# Altium footprint library SMD-IC  0607.PcbLib: 125 footprints (part 2 of 8)
Each footprint in its own frame and in the unit in brackets; x right, y up, seen from the top. Pads: shape width x height; smd on the part's side, far side on the other; paste and mask are expansions set on the pad; w line width, h text height; cw(c..) or ccw(c..) is an arc to the next point about the centre after c.
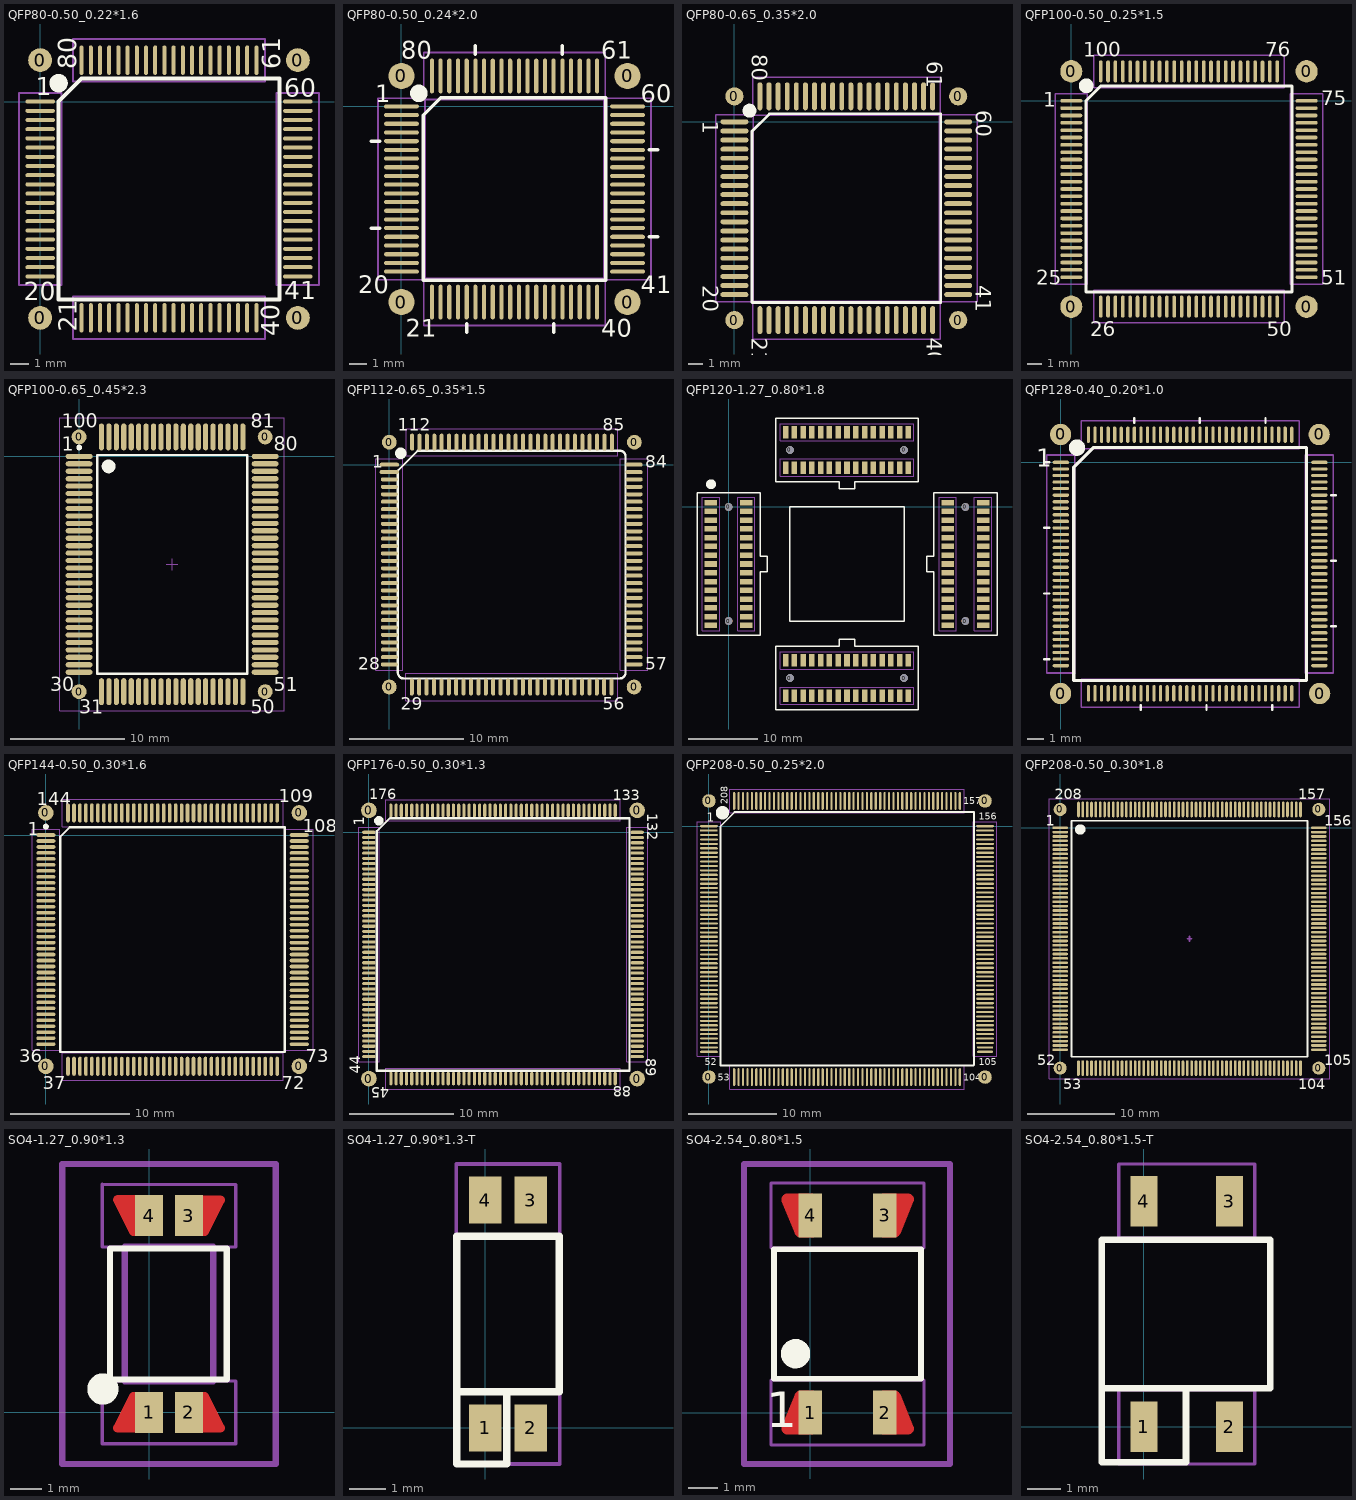
[diagram p1: the footprints below, top view; thin cyan lines are the x and y axes]

## QFP80-0.50_0.22*1.6 [mm]
pads (84):
  round 1.3 smd: 0(0,-11.75) 0(0,2.25) 0(14,-11.75) 0(14,2.25)
  oval 1.6x0.22 smd: 1(0,0) 2(0,-0.5) 3(0,-1) 4(0,-1.5) 5(0,-2) 6(0,-2.5) 7(0,-3) 8(0,-3.5) 9(0,-4) 10(0,-4.5) 11(0,-5) 12(0,-5.5) 13(0,-6) 14(0,-6.5) 15(0,-7) 16(0,-7.5) 17(0,-8) 18(0,-8.5) 19(0,-9) 20(0,-9.5) 41(14,-9.5) 42(14,-9) 43(14,-8.5) 44(14,-8) 45(14,-7.5) 46(14,-7) 47(14,-6.5) 48(14,-6) 49(14,-5.5) 50(14,-5) 51(14,-4.5) 52(14,-4) 53(14,-3.5) 54(14,-3) 55(14,-2.5) 56(14,-2) 57(14,-1.5) 58(14,-1) 59(14,-0.5) 60(14,0)
  oval 0.22x1.6 smd: 21(2.25,-11.75) 22(2.75,-11.75) 23(3.25,-11.75) 24(3.75,-11.75) 25(4.25,-11.75) 26(4.75,-11.75) 27(5.25,-11.75) 28(5.75,-11.75) 29(6.25,-11.75) 30(6.75,-11.75) 31(7.25,-11.75) 32(7.75,-11.75) 33(8.25,-11.75) 34(8.75,-11.75) 35(9.25,-11.75) 36(9.75,-11.75) 37(10.25,-11.75) 38(10.75,-11.75) 39(11.25,-11.75) 40(11.75,-11.75) 61(11.75,2.25) 62(11.25,2.25) 63(10.75,2.25) 64(10.25,2.25) 65(9.75,2.25) 66(9.25,2.25) 67(8.75,2.25) 68(8.25,2.25) 69(7.75,2.25) 70(7.25,2.25) 71(6.75,2.25) 72(6.25,2.25) 73(5.75,2.25) 74(5.25,2.25) 75(4.75,2.25) 76(4.25,2.25) 77(3.75,2.25) 78(3.25,2.25) 79(2.75,2.25) 80(2.25,2.25)
Top Overlay:
  circle w0.5: c1,1 r0.25
  lines w0.2: 1,-10.75 1,0 2.25,1.25 13,1.25 13,-10.75 1,-10.75
  text "80" at 1.95,1.75 h1
  text "61" at 13.05,1.75 h1
  text "60" at 13.25,0.25 h1
  text "41" at 13.25,-10.75 h1
  text "20" at -0.9,-10.8 h1
  text "1" at -0.25,0.35 h1
  text "21" at 2,-12.5 h1
  text "40" at 13,-12.75 h1
Mechanical 15:
  lines w0.1: -1.15,-9.96 -1.15,0.46 1.15,0.46 1.15,-9.96 -1.15,-9.96 ; 1.79,-12.9 12.21,-12.9 12.21,-10.6 1.79,-10.6 1.79,-12.9 ; 1.79,1.1 12.21,1.1 12.21,3.4 1.79,3.4 1.79,1.1 ; 12.85,-9.96 12.85,0.46 15.15,0.46 15.15,-9.96 12.85,-9.96

## QFP80-0.50_0.24*2.0 [mm]
height 1.2
pads (84):
  round 1.5 smd: 0(0,-11.25) 0(0,1.75) 0(13,-11.25) 0(13,1.75)
  oval 2x0.24 smd: 1(0,0) 2(0,-0.5) 3(0,-1) 4(0,-1.5) 5(0,-2) 6(0,-2.5) 7(0,-3) 8(0,-3.5) 9(0,-4) 10(0,-4.5) 11(0,-5) 12(0,-5.5) 13(0,-6) 14(0,-6.5) 15(0,-7) 16(0,-7.5) 17(0,-8) 18(0,-8.5) 19(0,-9) 20(0,-9.5) 41(13,-9.5) 42(13,-9) 43(13,-8.5) 44(13,-8) 45(13,-7.5) 46(13,-7) 47(13,-6.5) 48(13,-6) 49(13,-5.5) 50(13,-5) 51(13,-4.5) 52(13,-4) 53(13,-3.5) 54(13,-3) 55(13,-2.5) 56(13,-2) 57(13,-1.5) 58(13,-1) 59(13,-0.5) 60(13,0)
  oval 0.24x2 smd: 21(1.75,-11.25) 22(2.25,-11.25) 23(2.75,-11.25) 24(3.25,-11.25) 25(3.75,-11.25) 26(4.25,-11.25) 27(4.75,-11.25) 28(5.25,-11.25) 29(5.75,-11.25) 30(6.25,-11.25) 31(6.75,-11.25) 32(7.25,-11.25) 33(7.75,-11.25) 34(8.25,-11.25) 35(8.75,-11.25) 36(9.25,-11.25) 37(9.75,-11.25) 38(10.25,-11.25) 39(10.75,-11.25) 40(11.25,-11.25) 61(11.25,1.75) 62(10.75,1.75) 63(10.25,1.75) 64(9.75,1.75) 65(9.25,1.75) 66(8.75,1.75) 67(8.25,1.75) 68(7.75,1.75) 69(7.25,1.75) 70(6.75,1.75) 71(6.25,1.75) 72(5.75,1.75) 73(5.25,1.75) 74(4.75,1.75) 75(4.25,1.75) 76(3.75,1.75) 77(3.25,1.75) 78(2.75,1.75) 79(2.25,1.75) 80(1.75,1.75)
Top Overlay:
  circle w0.8: c1,0.75 r0.1
  lines w0.2: -1.75,-7 -1.25,-7 ; -1.75,-2 -1.25,-2 ; 3.75,-13 3.75,-12.5 ; 4.25,3 4.25,3.5 ; 8.75,-13 8.75,-12.5 ; 9.25,3 9.25,3.5 ; 14.25,-7.5 14.75,-7.5 ; 14.25,-2.5 14.75,-2.5 ; 1.25,-10 1.25,-0.5 2.25,0.5 11.75,0.5 11.75,-10 1.25,-10
  text "40" at 11.5,-13.25 h1
  text "41" at 13.75,-10.75 h1
  text "60" at 13.75,0.25 h1
  text "61" at 11.5,2.75 h1
  text "80" at 0,2.75 h1
  text "21" at 0.25,-13.25 h1
  text "20" at -2.5,-10.75 h1
  text "1" at -1.5,0.25 h1
Mechanical 15:
  lines w0.1: -1.35,-9.97 -1.35,0.47 1.35,0.47 1.35,-9.97 -1.35,-9.97 ; 1.28,-12.6 1.28,-9.9 11.72,-9.9 11.72,-12.6 1.28,-12.6 ; 1.28,0.4 11.72,0.4 11.72,3.1 1.28,3.1 1.28,0.4 ; 11.65,-9.97 11.65,0.47 14.35,0.47 14.35,-9.97 11.65,-9.97

## QFP80-0.65_0.35*2.0 [mm] "261007960Y"
height 2.45
pads (84):
  round 1.3 smd: 0(0,-14.175) 0(0,1.825) 0(16,-14.175) 0(16,1.825)
  oval 2x0.35 smd: 1(0,0) 2(0,-0.65) 3(0,-1.3) 4(0,-1.95) 5(0,-2.6) 6(0,-3.25) 7(0,-3.9) 8(0,-4.55) 9(0,-5.2) 10(0,-5.85) 11(0,-6.5) 12(0,-7.15) 13(0,-7.8) 14(0,-8.45) 15(0,-9.1) 16(0,-9.75) 17(0,-10.4) 18(0,-11.05) 19(0,-11.7) 20(0,-12.35) 41(16,-12.35) 42(16,-11.7) 43(16,-11.05) 44(16,-10.4) 45(16,-9.75) 46(16,-9.1) 47(16,-8.45) 48(16,-7.8) 49(16,-7.15) 50(16,-6.5) 51(16,-5.85) 52(16,-5.2) 53(16,-4.55) 54(16,-3.9) 55(16,-3.25) 56(16,-2.6) 57(16,-1.95) 58(16,-1.3) 59(16,-0.65) 60(16,0)
  oval 0.35x2 smd: 21(1.825,-14.175) 22(2.475,-14.175) 23(3.125,-14.175) 24(3.775,-14.175) 25(4.425,-14.175) 26(5.075,-14.175) 27(5.725,-14.175) 28(6.375,-14.175) 29(7.025,-14.175) 30(7.675,-14.175) 31(8.325,-14.175) 32(8.975,-14.175) 33(9.625,-14.175) 34(10.275,-14.175) 35(10.925,-14.175) 36(11.575,-14.175) 37(12.225,-14.175) 38(12.875,-14.175) 39(13.525,-14.175) 40(14.175,-14.175) 61(14.175,1.825) 62(13.525,1.825) 63(12.875,1.825) 64(12.225,1.825) 65(11.575,1.825) 66(10.925,1.825) 67(10.275,1.825) 68(9.625,1.825) 69(8.975,1.825) 70(8.325,1.825) 71(7.675,1.825) 72(7.025,1.825) 73(6.375,1.825) 74(5.725,1.825) 75(5.075,1.825) 76(4.425,1.825) 77(3.775,1.825) 78(3.125,1.825) 79(2.475,1.825) 80(1.825,1.825)
Top Overlay:
  circle w0.5: c1.075,0.8 r0.25
  lines w0.2: 1.25,-12.925 14.75,-12.925 14.75,0.575 2.5,0.575 1.25,-0.675 1.25,-12.925
  text "1" at -2.25,0.075 h1.1
  text "20" at -2.25,-11.675 h1.1
  text "21" at 1.25,-15.425 h1.1
  text "40" at 13.75,-15.425 h1.1
  text "41" at 17.25,-11.675 h1.1
  text "60" at 17.25,0.825 h1.1
  text "61" at 13.75,4.325 h1.1
  text "80" at 1.25,4.825 h1.1
Mechanical 15:
  lines w0.1: -1.35,-12.875 1.35,-12.875 1.35,0.525 -1.35,0.525 -1.35,-12.875 ; 1.3,-15.525 1.3,-12.825 14.7,-12.825 14.7,-15.525 1.3,-15.525 ; 1.3,0.475 14.7,0.475 14.7,3.175 1.3,3.175 1.3,0.475 ; 14.65,-12.875 17.35,-12.875 17.35,0.525 14.65,0.525 14.65,-12.875

## QFP100-0.50_0.25*1.5 [mm]
height 1.2
pads (104):
  oval 1.5x1.524 smd: 0(0,-14) 0(0,2) 0(16,-14) 0(16,2)
  oval 1.5x0.25 smd: 1(0,0) 2(0,-0.5) 3(0,-1) 4(0,-1.5) 5(0,-2) 6(0,-2.5) 7(0,-3) 8(0,-3.5) 9(0,-4) 10(0,-4.5) 11(0,-5) 12(0,-5.5) 13(0,-6) 14(0,-6.5) 15(0,-7) 16(0,-7.5) 17(0,-8) 18(0,-8.5) 19(0,-9) 20(0,-9.5) 21(0,-10) 22(0,-10.5) 23(0,-11) 24(0,-11.5) 25(0,-12) 51(16,-12) 52(16,-11.5) 53(16,-11) 54(16,-10.5) 55(16,-10) 56(16,-9.5) 57(16,-9) 58(16,-8.5) 59(16,-8) 60(16,-7.5) 61(16,-7) 62(16,-6.5) 63(16,-6) 64(16,-5.5) 65(16,-5) 66(16,-4.5) 67(16,-4) 68(16,-3.5) 69(16,-3) 70(16,-2.5) 71(16,-2) 72(16,-1.5) 73(16,-1) 74(16,-0.5) 75(16,0)
  oval 0.25x1.5 smd: 26(2,-14) 27(2.5,-14) 28(3,-14) 29(3.5,-14) 30(4,-14) 31(4.5,-14) 32(5,-14) 33(5.5,-14) 34(6,-14) 35(6.5,-14) 36(7,-14) 37(7.5,-14) 38(8,-14) 39(8.5,-14) 40(9,-14) 41(9.5,-14) 42(10,-14) 43(10.5,-14) 44(11,-14) 45(11.5,-14) 46(12,-14) 47(12.5,-14) 48(13,-14) 49(13.5,-14) 50(14,-14) 76(14,2) 77(13.5,2) 78(13,2) 79(12.5,2) 80(12,2) 81(11.5,2) 82(11,2) 83(10.5,2) 84(10,2) 85(9.5,2) 86(9,2) 87(8.5,2) 88(8,2) 89(7.5,2) 90(7,2) 91(6.5,2) 92(6,2) 93(5.5,2) 94(5,2) 95(4.5,2) 96(4,2) 97(3.5,2) 98(3,2) 99(2.5,2) 100(2,2)
Top Overlay:
  circle w0.5: c1.016,1.016 r0.25
  lines w0.2: 1,-13 1,0 2,1 15,1 15,-13 1,-13
  text "25" at -2.4,-12.5 h1
  text "100" at 0.8,3 h1
  text "1" at -1.9,-0.4 h1
  text "76" at 13.2,3 h1
  text "75" at 17,-0.3 h1
  text "51" at 17,-12.5 h1
  text "50" at 13.3,-16 h1
  text "26" at 1.3,-16 h1
Mechanical 15:
  lines w0.1: -1.1,-12.475 -1.1,0.475 1.1,0.475 1.1,-12.475 -1.1,-12.475 ; 1.525,-15.1 1.525,-12.9 14.475,-12.9 14.475,-15.1 1.525,-15.1 ; 1.525,0.9 1.525,3.1 14.475,3.1 14.475,0.9 1.525,0.9 ; 14.9,-12.475 17.1,-12.475 17.1,0.475 14.9,0.475 14.9,-12.475

## QFP100-0.65_0.45*2.3 [mm] "100-Pin Quad Flat Pack Rectangular 0.65 mm Pitch, IPC Low Density"
height 3.4
pads (104):
  round 1.3 smd: 0(0,-20.55) 0(0,1.7) 0(16.25,-20.55) 0(16.25,1.7)
  oval 2.35x0.45 smd: 1(0,0) 2(0,-0.65) 3(0,-1.3) 4(0,-1.95) 5(0,-2.6) 6(0,-3.25) 7(0,-3.9) 8(0,-4.55) 9(0,-5.2) 10(0,-5.85) 11(0,-6.5) 12(0,-7.15) 13(0,-7.8) 14(0,-8.45) 15(0,-9.1) 16(0,-9.75) 17(0,-10.4) 18(0,-11.05) 19(0,-11.7) 20(0,-12.35) 21(0,-13) 22(0,-13.65) 23(0,-14.3) 24(0,-14.95) 25(0,-15.6) 26(0,-16.25) 27(0,-16.9) 28(0,-17.55) 29(0,-18.2) 30(0,-18.85) 51(16.25,-18.85) 52(16.25,-18.2) 53(16.25,-17.55) 54(16.25,-16.9) 55(16.25,-16.25) 56(16.25,-15.6) 57(16.25,-14.95) 58(16.25,-14.3) 59(16.25,-13.65) 60(16.25,-13) 61(16.25,-12.35) 62(16.25,-11.7) 63(16.25,-11.05) 64(16.25,-10.4) 65(16.25,-9.75) 66(16.25,-9.1) 67(16.25,-8.45) 68(16.25,-7.8) 69(16.25,-7.15) 70(16.25,-6.5) 71(16.25,-5.85) 72(16.25,-5.2) 73(16.25,-4.55) 74(16.25,-3.9) 75(16.25,-3.25) 76(16.25,-2.6) 77(16.25,-1.95) 78(16.25,-1.3) 79(16.25,-0.65) 80(16.25,0)
  oval 0.45x2.35 smd: 31(1.95,-20.55) 32(2.6,-20.55) 33(3.25,-20.55) 34(3.9,-20.55) 35(4.55,-20.55) 36(5.2,-20.55) 37(5.85,-20.55) 38(6.5,-20.55) 39(7.15,-20.55) 40(7.8,-20.55) 41(8.45,-20.55) 42(9.1,-20.55) 43(9.75,-20.55) 44(10.4,-20.55) 45(11.05,-20.55) 46(11.7,-20.55) 47(12.35,-20.55) 48(13,-20.55) 49(13.65,-20.55) 50(14.3,-20.55) 81(14.3,1.7) 82(13.65,1.7) 83(13,1.7) 84(12.35,1.7) 85(11.7,1.7) 86(11.05,1.7) 87(10.4,1.7) 88(9.75,1.7) 89(9.1,1.7) 90(8.45,1.7) 91(7.8,1.7) 92(7.15,1.7) 93(6.5,1.7) 94(5.85,1.7) 95(5.2,1.7) 96(4.55,1.7) 97(3.9,1.7) 98(3.25,1.7) 99(2.6,1.7) 100(1.95,1.7)
Top Overlay:
  circle w0.25: c0,0.775 r0.125
  circle w0.6: c2.575,-0.875 r0.3
  lines w0.2: 1.575,-18.975 1.575,0.125 14.675,0.125 14.675,-18.975 1.575,-18.975
  text "30" at -2.5,-20.5 h1.2
  text "31" at 0,-22.5 h1.2
  text "100" at -1.5,2.5 h1.2
  text "1" at -1.5,0.5 h1.2
  text "80" at 17,0.5 h1.2
  text "81" at 15,2.5 h1.2
  text "51" at 17,-20.5 h1.2
  text "50" at 15,-22.5 h1.2
Mechanical 7:
  lines w0.1: 7.625,-9.425 8.625,-9.425 ; 8.125,-9.925 8.125,-8.925
Mechanical 15:
  lines w0.1: -1.675,-22.225 -1.675,3.375 17.925,3.375 17.925,-22.225 -1.675,-22.225

## QFP112-0.65_0.35*1.5 [mm]
height 1.6
pads (116):
  round 1.3 smd: 0(0,-19.525) 0(0,1.975) 0(21.5,-19.525) 0(21.525,1.975)
  oval 1.7x0.35 smd: 1(0,0) 2(0,-0.65)
  oval 1.5x0.35 smd: 3(0,-1.3) 4(0,-1.95) 5(0,-2.6) 6(0,-3.25) 7(0,-3.9) 8(0,-4.55) 9(0,-5.2) 10(0,-5.85) 11(0,-6.5) 12(0,-7.15) 13(0,-7.8) 14(0,-8.45) 15(0,-9.1) 16(0,-9.75) 17(0,-10.4) 18(0,-11.05) 19(0,-11.7) 20(0,-12.35) 21(0,-13) 22(0,-13.65) 23(0,-14.3) 24(0,-14.95) 25(0,-15.6) 26(0,-16.25) 27(0,-16.9) 28(0,-17.55) 57(21.5,-17.55) 58(21.5,-16.9) 59(21.5,-16.25) 60(21.5,-15.6) 61(21.5,-14.95) 62(21.5,-14.3) 63(21.5,-13.65) 64(21.5,-13) 65(21.5,-12.35) 66(21.5,-11.7) 67(21.5,-11.05) 68(21.5,-10.4) 69(21.5,-9.75) 70(21.5,-9.1) 71(21.5,-8.45) 72(21.5,-7.8) 73(21.5,-7.15) 74(21.5,-6.5) 75(21.5,-5.85) 76(21.5,-5.2) 77(21.5,-4.55) 78(21.5,-3.9) 79(21.5,-3.25) 80(21.5,-2.6) 81(21.5,-1.95) 82(21.5,-1.3) 83(21.5,-0.65) 84(21.5,0)
  oval 0.35x1.5 smd: 29(1.975,-19.525) 30(2.625,-19.525) 31(3.275,-19.525) 32(3.925,-19.525) 33(4.575,-19.525) 34(5.225,-19.525) 35(5.875,-19.525) 36(6.525,-19.525) 37(7.175,-19.525) 38(7.825,-19.525) 39(8.475,-19.525) 40(9.125,-19.525) 41(9.775,-19.525) 42(10.425,-19.525) 43(11.075,-19.525) 44(11.725,-19.525) 45(12.375,-19.525) 46(13.025,-19.525) 47(13.675,-19.525) 48(14.325,-19.525) 49(14.975,-19.525) 50(15.625,-19.525) 51(16.275,-19.525) 52(16.925,-19.525) 53(17.575,-19.525) 54(18.225,-19.525) 55(18.875,-19.525) 56(19.525,-19.525) 85(19.55,1.975) 86(18.9,1.975) 87(18.25,1.975) 88(17.6,1.975) 89(16.95,1.975) 90(16.3,1.975) 91(15.65,1.975) 92(15,1.975) 93(14.35,1.975) 94(13.7,1.975) 95(13.05,1.975) 96(12.4,1.975) 97(11.75,1.975) 98(11.1,1.975) 99(10.45,1.975) 100(9.8,1.975) 101(9.15,1.975) 102(8.5,1.975) 103(7.85,1.975) 104(7.2,1.975) 105(6.55,1.975) 106(5.9,1.975) 107(5.25,1.975) 108(4.6,1.975) 109(3.95,1.975) 110(3.3,1.975) 111(2.65,1.975) 112(2,1.975)
Top Overlay:
  circle w0.5: c1,1 r0.25
  lines w0.2: 0.75,0.725 cw(c1.25,0.725) 1.25,1.225 ; 0.75,-18.275 ccw(c1.25,-18.275) 1.25,-18.775 20.25,-18.775 ccw(c20.25,-18.275) 20.75,-18.275 20.75,0.725 ccw(c20.25,0.725) 20.25,1.225 2.5,1.225 0.75,-0.525 0.75,-18.275
  text "84" at 22.5,-0.275 h1.1
  text "57" at 22.5,-18.025 h1.1
  text "56" at 18.75,-21.525 h1.1
  text "29" at 1,-21.525 h1.1
  text "28" at -2.75,-18.025 h1.1
  text "1" at -1.5,-0.275 h1.1
  text "85" at 18.75,2.975 h1.1
  text "112" at 0.75,2.975 h1.1
Mechanical 15:
  lines w0.1: -1.2,-18.075 1.2,-18.075 1.2,0.525 -1.2,0.525 -1.2,-18.075 ; 1.45,-20.725 1.45,-18.325 20.05,-18.325 20.05,-20.725 1.45,-20.725 ; 1.475,0.775 1.475,3.175 20.075,3.175 20.075,0.775 1.475,0.775 ; 20.3,-18.075 22.7,-18.075 22.7,0.525 20.3,0.525 20.3,-18.075

## QFP120-1.27_0.80*1.8 [mm]
pads (128):
  round 1.1 hole 1.1 unplated: 0(0,-16.51) 0(0,0) 0(8.89,-24.765) 0(8.89,8.255) 0(25.4,-24.765) 0(25.4,8.255) 0(34.29,-16.51) 0(34.29,0)
  rect 1.8x0.8 smd: 1(2.55,-0.635) 2(-2.55,-1.905) 3(2.55,-1.905) 4(-2.55,-3.175) 5(2.55,-3.175) 6(-2.55,-4.445) 7(2.55,-4.445) 8(-2.55,-5.715) 9(2.55,-5.715) 10(-2.55,-6.985) 11(2.55,-6.985) 12(-2.55,-8.255) 13(2.55,-8.255) 14(-2.55,-9.525) 15(2.55,-9.525) 16(-2.55,-10.795) 17(2.55,-10.795) 18(-2.55,-12.065) 19(2.55,-12.065) 20(-2.55,-13.335) 21(2.55,-13.335) 22(-2.55,-14.605) 23(2.55,-14.605) 24(-2.55,-15.875) 25(2.55,-15.875) 51(31.74,-15.875) 52(36.84,-14.605) 53(31.74,-14.605) 54(36.84,-13.335) 55(31.74,-13.335) 56(36.84,-12.065) 57(31.74,-12.065) 58(36.84,-10.795) 59(31.74,-10.795) 60(36.84,-9.525) 61(31.74,-9.525) 62(36.84,-8.255) 63(31.74,-8.255) 64(36.84,-6.985) 65(31.74,-6.985) 66(36.84,-5.715) 67(31.74,-5.715) 68(36.84,-4.445) 69(31.74,-4.445) 70(36.84,-3.175) 71(31.74,-3.175) 72(36.84,-1.905) 73(31.74,-1.905) 74(36.84,-0.635) 75(31.74,-0.635) C(2.55,0.635) D(-2.55,0.635) E(-2.55,-0.635) F(2.55,-17.145) G(-2.55,-17.145) M(31.74,-17.145) N(36.84,-17.145) O(36.84,-15.875) P(36.84,0.635) Q(31.74,0.635)
  rect 0.8x1.8 smd: 26(9.525,-22.215) 27(10.795,-27.315) 28(10.795,-22.215) 29(12.065,-27.315) 30(12.065,-22.215) 31(13.335,-27.315) 32(13.335,-22.215) 33(14.605,-27.315) 34(14.605,-22.215) 35(15.875,-27.315) 36(15.875,-22.215) 37(17.145,-27.315) 38(17.145,-22.215) 39(18.415,-27.315) 40(18.415,-22.215) 41(19.685,-27.315) 42(19.685,-22.215) 43(20.955,-27.315) 44(20.955,-22.215) 45(22.225,-27.315) 46(22.225,-22.215) 47(23.495,-27.315) 48(23.495,-22.215) 49(24.765,-27.315) 50(24.765,-22.215) 76(24.765,5.705) 77(23.495,10.805) 78(23.495,5.705) 79(22.225,10.805) 80(22.225,5.705) 81(20.955,10.805) 82(20.955,5.705) 83(19.685,10.805) 84(19.685,5.705) 85(18.415,10.805) 86(18.415,5.705) 87(17.145,10.805) 88(17.145,5.705) 89(15.875,10.805) 90(15.875,5.705) 91(14.605,10.805) 92(14.605,5.705) 93(13.335,10.805) 94(13.335,5.705) 95(12.065,10.805) 96(12.065,5.705) 97(10.795,10.805) 98(10.795,5.705) 99(9.525,10.805) 100(9.525,5.705) A(8.255,5.705) B(8.255,10.805) H(8.255,-22.215) I(8.255,-27.315) J(9.525,-27.315) K(26.035,-22.215) L(26.035,-27.315) R(26.035,5.705) S(26.035,10.805) T(24.765,10.805)
Top Overlay:
  circle w1.27: c-2.54,3.302 r0.076
  lines w0.2: -4.572,-18.542 -4.572,2.032 4.572,2.032 4.572,-7.112 5.588,-7.112 5.588,-9.398 4.572,-9.398 4.572,-18.542 -4.572,-18.542 ; 6.858,-29.337 27.432,-29.337 27.432,-20.193 18.288,-20.193 18.288,-19.177 16.002,-19.177 16.002,-20.193 6.858,-20.193 6.858,-29.337 ; 6.858,3.683 16.002,3.683 16.002,2.667 18.288,2.667 18.288,3.683 27.432,3.683 27.432,12.827 6.858,12.827 6.858,3.683 ; 8.89,-16.51 8.89,0 25.4,0 25.4,-16.51 8.89,-16.51 ; 28.702,-9.398 28.702,-7.112 29.718,-7.112 29.718,2.032 38.862,2.032 38.862,-18.542 29.718,-18.542 29.718,-9.398 28.702,-9.398
Mechanical 15:
  lines w0.1: -3.8,-17.895 -1.3,-17.895 -1.3,1.385 -3.8,1.385 -3.8,-17.895 ; 1.3,-17.895 1.3,1.385 3.8,1.385 3.8,-17.895 1.3,-17.895 ; 7.505,-28.565 26.785,-28.565 26.785,-26.065 7.505,-26.065 7.505,-28.565 ; 7.505,-23.465 26.785,-23.465 26.785,-20.965 7.505,-20.965 7.505,-23.465 ; 7.505,4.455 26.785,4.455 26.785,6.955 7.505,6.955 7.505,4.455 ; 7.505,9.555 26.785,9.555 26.785,12.055 7.505,12.055 7.505,9.555 ; 30.49,-17.895 30.49,1.385 32.99,1.385 32.99,-17.895 30.49,-17.895 ; 35.59,-17.895 35.59,1.385 38.09,1.385 38.09,-17.895 35.59,-17.895
Drill Drawing:
  text "NPTH" at -2.55,-15.645 h1
  text "NPTH" at -2.55,-2.145 h1
  text "NPTH" at 6.5,-26.5 h1
  text "NPTH" at 23,-26.5 h1
  text "NPTH" at 32.25,-15.75 h1
  text "NPTH" at 32.25,-2.25 h1
  text "NPTH" at 23,6.5 h1
  text "NPTH" at 6.5,6.5 h1

## QFP128-0.40_0.20*1.0 [mm]
height 1.6
pads (132):
  round 1.3 smd: 0(-0.015,-14.1) 0(-0.015,1.7) 0(15.757,1.7) 0(15.785,-14.1)
  oval 1x0.2 smd: 1(0,0) 2(0,-0.4) 3(0,-0.8) 4(0,-1.2) 5(0,-1.6) 6(0,-2) 7(0,-2.4) 8(0,-2.8) 9(0,-3.2) 10(0,-3.6) 11(0,-4) 12(0,-4.4) 13(0,-4.8) 14(0,-5.2) 15(0,-5.6) 16(0,-6) 17(0,-6.4) 18(0,-6.8) 19(0,-7.2) 20(0,-7.6) 21(0,-8) 22(0,-8.4) 23(0,-8.8) 24(0,-9.2) 25(0,-9.6) 26(0,-10) 27(0,-10.4) 28(0,-10.8) 29(0,-11.2) 30(0,-11.6) 31(0,-12) 32(0,-12.4) 65(15.771,-12.4) 66(15.771,-12) 67(15.771,-11.6) 68(15.771,-11.2) 69(15.771,-10.8) 70(15.771,-10.4) 71(15.771,-10) 72(15.771,-9.6) 73(15.771,-9.2) 74(15.771,-8.8) 75(15.771,-8.4) 76(15.771,-8) 77(15.771,-7.6) 78(15.771,-7.2) 79(15.771,-6.8) 80(15.771,-6.4) 81(15.771,-6) 82(15.771,-5.6) 83(15.771,-5.2) 84(15.771,-4.8) 85(15.771,-4.4) 86(15.771,-4) 87(15.771,-3.6) 88(15.771,-3.2) 89(15.771,-2.8) 90(15.771,-2.4) 91(15.771,-2) 92(15.771,-1.6) 93(15.771,-1.2) 94(15.771,-0.8) 95(15.771,-0.4) 96(15.771,0)
  oval 0.2x1 smd: 33(1.686,-14.085) 34(2.086,-14.085) 35(2.486,-14.085) 36(2.886,-14.085) 37(3.286,-14.085) 38(3.686,-14.085) 39(4.086,-14.085) 40(4.486,-14.085) 41(4.886,-14.085) 42(5.286,-14.085) 43(5.686,-14.085) 44(6.086,-14.085) 45(6.486,-14.085) 46(6.886,-14.085) 47(7.286,-14.085) 48(7.686,-14.085) 49(8.086,-14.085) 50(8.486,-14.085) 51(8.886,-14.085) 52(9.286,-14.085) 53(9.686,-14.085) 54(10.086,-14.085) 55(10.486,-14.085) 56(10.886,-14.085) 57(11.285,-14.085) 58(11.685,-14.085) 59(12.085,-14.085) 60(12.485,-14.085) 61(12.885,-14.085) 62(13.285,-14.085) 63(13.685,-14.085) 64(14.085,-14.085) 97(14.085,1.686) 98(13.685,1.686) 99(13.285,1.686) 100(12.885,1.686) 101(12.485,1.686) 102(12.085,1.686) 103(11.685,1.686) 104(11.285,1.686) 105(10.886,1.686) 106(10.486,1.686) 107(10.086,1.686) 108(9.686,1.686) 109(9.286,1.686) 110(8.886,1.686) 111(8.486,1.686) 112(8.086,1.686) 113(7.686,1.686) 114(7.286,1.686) 115(6.886,1.686) 116(6.486,1.686) 117(6.086,1.686) 118(5.686,1.686) 119(5.286,1.686) 120(4.886,1.686) 121(4.486,1.686) 122(4.086,1.686) 123(3.686,1.686) 124(3.286,1.686) 125(2.886,1.686) 126(2.486,1.686) 127(2.086,1.686) 128(1.686,1.686)
Top Overlay:
  circle w0.5: c0.985,0.9 r0.25
  lines w0.15: -1.015,-12 -0.715,-12 ; -1.015,-8 -0.715,-8 ; -1.015,-4 -0.715,-4 ; -1.015,0 -0.715,0 ; 4.486,2.4 4.486,2.7 ; 4.886,-15.1 4.886,-14.8 ; 8.486,2.4 8.486,2.7 ; 8.886,-15.1 8.886,-14.8 ; 12.485,2.4 12.485,2.7 ; 12.885,-15.1 12.885,-14.8 ; 16.485,-10 16.785,-10 ; 16.485,-6 16.785,-6 ; 16.485,-2 16.785,-2
  lines w0.2: 0.785,-13.3 0.785,-0.3 1.985,0.9 14.985,0.9 14.985,-13.3 0.785,-13.3
  text "1" at -1.515,-0.275 h1.1
Mechanical 15:
  lines w0.1: -0.85,-12.85 -0.85,0.45 0.85,0.45 0.85,-12.85 -0.85,-12.85 ; 1.236,-14.935 1.236,-13.235 14.536,-13.235 14.536,-14.935 1.236,-14.935 ; 1.236,0.836 1.236,2.536 14.536,2.536 14.536,0.836 1.236,0.836 ; 14.921,-12.85 16.621,-12.85 16.621,0.45 14.921,0.45 14.921,-12.85

## QFP144-0.50_0.30*1.6 [mm]
height 1.6
pads (148):
  round 1.3 smd: 0(0,-19.35) 0(0,1.85) 0(21.2,-19.35) 0(21.2,1.85)
  oval 1.6x0.3 smd: 1(0,0) 2(0,-0.5) 3(0,-1) 4(0,-1.5) 5(0,-2) 6(0,-2.5) 7(0,-3) 8(0,-3.5) 9(0,-4) 10(0,-4.5) 11(0,-5) 12(0,-5.5) 13(0,-6) 14(0,-6.5) 15(0,-7) 16(0,-7.5) 17(0,-8) 18(0,-8.5) 19(0,-9) 20(0,-9.5) 21(0,-10) 22(0,-10.5) 23(0,-11) 24(0,-11.5) 25(0,-12) 26(0,-12.5) 27(0,-13) 28(0,-13.5) 29(0,-14) 30(0,-14.5) 31(0,-15) 32(0,-15.5) 33(0,-16) 34(0,-16.5) 35(0,-17) 36(0,-17.5) 73(21.2,-17.5) 74(21.2,-17) 75(21.2,-16.5) 76(21.2,-16) 77(21.2,-15.5) 78(21.2,-15) 79(21.2,-14.5) 80(21.2,-14) 81(21.2,-13.5) 82(21.2,-13) 83(21.2,-12.5) 84(21.2,-12) 85(21.2,-11.5) 86(21.2,-11) 87(21.2,-10.5) 88(21.2,-10) 89(21.2,-9.5) 90(21.2,-9) 91(21.2,-8.5) 92(21.2,-8) 93(21.2,-7.5) 94(21.2,-7) 95(21.2,-6.5) 96(21.2,-6) 97(21.2,-5.5) 98(21.2,-5) 99(21.2,-4.5) 100(21.2,-4) 101(21.2,-3.5) 102(21.2,-3) 103(21.2,-2.5) 104(21.2,-2) 105(21.2,-1.5) 106(21.2,-1) 107(21.2,-0.5) 108(21.2,0)
  oval 0.3x1.6 smd: 37(1.85,-19.35) 38(2.35,-19.35) 39(2.85,-19.35) 40(3.35,-19.35) 41(3.85,-19.35) 42(4.35,-19.35) 43(4.85,-19.35) 44(5.35,-19.35) 45(5.85,-19.35) 46(6.35,-19.35) 47(6.85,-19.35) 48(7.35,-19.35) 49(7.85,-19.35) 50(8.35,-19.35) 51(8.85,-19.35) 52(9.35,-19.35) 53(9.85,-19.35) 54(10.35,-19.35) 55(10.85,-19.35) 56(11.35,-19.35) 57(11.85,-19.35) 58(12.35,-19.35) 59(12.85,-19.35) 60(13.35,-19.35) 61(13.85,-19.35) 62(14.35,-19.35) 63(14.85,-19.35) 64(15.35,-19.35) 65(15.85,-19.35) 66(16.35,-19.35) 67(16.85,-19.35) 68(17.35,-19.35) 69(17.85,-19.35) 70(18.35,-19.35) 71(18.85,-19.35) 72(19.35,-19.35) 109(19.35,1.85) 110(18.85,1.85) 111(18.35,1.85) 112(17.85,1.85) 113(17.35,1.85) 114(16.85,1.85) 115(16.35,1.85) 116(15.85,1.85) 117(15.35,1.85) 118(14.85,1.85) 119(14.35,1.85) 120(13.85,1.85) 121(13.35,1.85) 122(12.85,1.85) 123(12.35,1.85) 124(11.85,1.85) 125(11.35,1.85) 126(10.85,1.85) 127(10.35,1.85) 128(9.85,1.85) 129(9.35,1.85) 130(8.85,1.85) 131(8.35,1.85) 132(7.85,1.85) 133(7.35,1.85) 134(6.85,1.85) 135(6.35,1.85) 136(5.85,1.85) 137(5.35,1.85) 138(4.85,1.85) 139(4.35,1.85) 140(3.85,1.85) 141(3.35,1.85) 142(2.85,1.85) 143(2.35,1.85) 144(1.85,1.85)
Top Overlay:
  circle w0.25: c0,0.7 r0.125
  lines w0.2: 1.2,-18.15 20,-18.15 20,0.65 2,0.65 1.2,-0.15 1.2,-18.15
  text "144" at -0.75,2.5 h1.1
  text "109" at 19.5,2.75 h1.1
  text "108" at 21.5,0.25 h1.1
  text "73" at 21.75,-19 h1.1
  text "72" at 19.75,-21.25 h1.1
  text "37" at -0.25,-21.25 h1.1
  text "36" at -2.25,-19 h1.1
  text "1" at -1.5,0 h1.1
Mechanical 15:
  lines w0.1: -1.15,-18 -1.15,0.5 1.15,0.5 1.15,-18 -1.15,-18 ; 1.35,-20.5 1.35,-18.2 19.85,-18.2 19.85,-20.5 1.35,-20.5 ; 1.35,0.7 1.35,3 19.85,3 19.85,0.7 1.35,0.7 ; 20.05,-18 22.35,-18 22.35,0.5 20.05,0.5 20.05,-18

## QFP176-0.50_0.30*1.3 [mm]
height 1.6
pads (180):
  round 1.5 smd: 0(0,-23.6) 0(0,2.1) 0(25.7,-23.6) 0(25.7,2.1)
  oval 1.3x0.3 smd: 1(0,0) 2(0,-0.5) 3(0,-1) 4(0,-1.5) 5(0,-2) 6(0,-2.5) 7(0,-3) 8(0,-3.5) 9(0,-4) 10(0,-4.5) 11(0,-5) 12(0,-5.5) 13(0,-6) 14(0,-6.5) 15(0,-7) 16(0,-7.5) 17(0,-8) 18(0,-8.5) 19(0,-9) 20(0,-9.5) 21(0,-10) 22(0,-10.5) 23(0,-11) 24(0,-11.5) 25(0,-12) 26(0,-12.5) 27(0,-13) 28(0,-13.5) 29(0,-14) 30(0,-14.5) 31(0,-15) 32(0,-15.5) 33(0,-16) 34(0,-16.5) 35(0,-17) 36(0,-17.5) 37(0,-18) 38(0,-18.5) 39(0,-19) 40(0,-19.5) 41(0,-20) 42(0,-20.5) 43(0,-21) 44(0,-21.5) 89(25.7,-21.5) 90(25.7,-21) 91(25.7,-20.5) 92(25.7,-20) 93(25.7,-19.5) 94(25.7,-19) 95(25.7,-18.5) 96(25.7,-18) 97(25.7,-17.5) 98(25.7,-17) 99(25.7,-16.5) 100(25.7,-16) 101(25.7,-15.5) 102(25.7,-15) 103(25.7,-14.5) 104(25.7,-14) 105(25.7,-13.5) 106(25.7,-13) 107(25.7,-12.5) 108(25.7,-12) 109(25.7,-11.5) 110(25.7,-11) 111(25.7,-10.5) 112(25.7,-10) 113(25.7,-9.5) 114(25.7,-9) 115(25.7,-8.5) 116(25.7,-8) 117(25.7,-7.5) 118(25.7,-7) 119(25.7,-6.5) 120(25.7,-6) 121(25.7,-5.5) 122(25.7,-5) 123(25.7,-4.5) 124(25.7,-4) 125(25.7,-3.5) 126(25.7,-3) 127(25.7,-2.5) 128(25.7,-2) 129(25.7,-1.5) 130(25.7,-1) 131(25.7,-0.5) 132(25.7,0)
  oval 0.3x1.3 smd: 45(2.1,-23.6) 46(2.6,-23.6) 47(3.1,-23.6) 48(3.6,-23.6) 49(4.1,-23.6) 50(4.6,-23.6) 51(5.1,-23.6) 52(5.6,-23.6) 53(6.1,-23.6) 54(6.6,-23.6) 55(7.1,-23.6) 56(7.6,-23.6) 57(8.1,-23.6) 58(8.6,-23.6) 59(9.1,-23.6) 60(9.6,-23.6) 61(10.1,-23.6) 62(10.6,-23.6) 63(11.1,-23.6) 64(11.6,-23.6) 65(12.1,-23.6) 66(12.6,-23.6) 67(13.1,-23.6) 68(13.6,-23.6) 69(14.1,-23.6) 70(14.6,-23.6) 71(15.1,-23.6) 72(15.6,-23.6) 73(16.1,-23.6) 74(16.6,-23.6) 75(17.1,-23.6) 76(17.6,-23.6) 77(18.1,-23.6) 78(18.6,-23.6) 79(19.1,-23.6) 80(19.6,-23.6) 81(20.1,-23.6) 82(20.6,-23.6) 83(21.1,-23.6) 84(21.6,-23.6) 85(22.1,-23.6) 86(22.6,-23.6) 87(23.1,-23.6) 88(23.6,-23.6) 133(23.6,2.1) 134(23.1,2.1) 135(22.6,2.1) 136(22.1,2.1) 137(21.6,2.1) 138(21.1,2.1) 139(20.6,2.1) 140(20.1,2.1) 141(19.6,2.1) 142(19.1,2.1) 143(18.6,2.1) 144(18.1,2.1) 145(17.6,2.1) 146(17.1,2.1) 147(16.6,2.1) 148(16.1,2.1) 149(15.6,2.1) 150(15.1,2.1) 151(14.6,2.1) 152(14.1,2.1) 153(13.6,2.1) 154(13.1,2.1) 155(12.6,2.1) 156(12.1,2.1) 157(11.6,2.1) 158(11.1,2.1) 159(10.6,2.1) 160(10.1,2.1) 161(9.6,2.1) 162(9.1,2.1) 163(8.6,2.1) 164(8.1,2.1) 165(7.6,2.1) 166(7.1,2.1) 167(6.6,2.1) 168(6.1,2.1) 169(5.6,2.1) 170(5.1,2.1) 171(4.6,2.1) 172(4.1,2.1) 173(3.6,2.1) 174(3.1,2.1) 175(2.6,2.1) 176(2.1,2.1)
Top Overlay:
  circle w0.5: c0.95,1.1 r0.2
  lines w0.2: 0.75,-22.85 24.95,-22.85 24.95,1.35 2,1.35 0.75,0.1 0.75,-22.85
  text "176" at 0.05,3.15 h1
  text "133" at 23.35,3.05 h1
  text "89" at 26.55,-21.65 h1
  text "88" at 25.15,-24.35 h1
  text "132" at 26.65,1.85 h1
  text "45" at 1.95,-24.45 h1
  text "44" at -0.85,-23.15 h1
  text "1" at -0.45,0.65 h1
Mechanical 15:
  lines w0.1: -1,-22 -1,0.5 1,0.5 1,-22 -1,-22 ; 1.6,-24.6 1.6,-22.6 24.1,-22.6 24.1,-24.6 1.6,-24.6 ; 1.6,1.1 1.6,3.1 24.1,3.1 24.1,1.1 1.6,1.1 ; 24.7,-22 26.7,-22 26.7,0.5 24.7,0.5 24.7,-22

## QFP208-0.50_0.25*2.0 [mm]
pads (212):
  round 1.524 smd: 0(0,-28.35) 0(0,2.85) 0(31.2,-28.35) 0(31.2,2.85)
  oval 2x0.25 smd: 1(0,0) 2(-0.016,-0.5) 3(0,-1) 4(0,-1.5) 5(0,-2) 6(0,-2.5) 7(0,-3) 8(0,-3.5) 9(0,-4) 10(0,-4.5) 11(0,-5) 12(0,-5.5) 13(0,-6) 14(0,-6.5) 15(0,-7) 16(0,-7.5) 17(0,-8) 18(0,-8.5) 19(0,-9) 20(0,-9.5) 21(0,-10) 22(0,-10.5) 23(0,-11) 24(0,-11.5) 25(0,-12) 26(0,-12.5) 27(0,-13) 28(0,-13.5) 29(0,-14) 30(0,-14.5) 31(0,-15) 32(0,-15.5) 33(0,-16) 34(0,-16.5) 35(0,-17) 36(0,-17.5) 37(0,-18) 38(0,-18.5) 39(0,-19) 40(0,-19.5) 41(0,-20) 42(0,-20.5) 43(0,-21) 44(0,-21.5) 45(0,-22) 46(0,-22.5) 47(0,-23) 48(0,-23.5) 49(0,-24) 50(0,-24.5) 51(0,-25) 52(0,-25.5) 107(31.2,-24.5) 108(31.2,-24) 109(31.2,-23.5) 110(31.2,-23) 111(31.2,-22.5) 112(31.2,-22) 113(31.2,-21.5) 114(31.2,-21) 115(31.2,-20.5) 116(31.2,-20) 117(31.2,-19.5) 118(31.2,-19) 119(31.2,-18.5) 120(31.2,-18) 121(31.2,-17.5) 122(31.2,-17) 123(31.2,-16.5) 124(31.2,-16) 125(31.2,-15.5) 126(31.2,-15) 127(31.2,-14.5) 128(31.2,-14) 129(31.2,-13.5) 130(31.2,-13) 131(31.2,-12.5) 132(31.2,-12) 133(31.2,-11.5) 134(31.2,-11) 135(31.2,-10.5) 136(31.2,-10) 137(31.2,-9.5) 138(31.2,-9) 139(31.2,-8.5) 140(31.2,-8) 141(31.2,-7.5) 142(31.2,-7) 143(31.2,-6.5) 144(31.2,-6) 145(31.2,-5.5) 146(31.2,-5) 147(31.2,-4.5) 148(31.2,-4) 149(31.2,-3.5) 150(31.2,-3) 151(31.2,-2.5) 152(31.2,-2) 153(31.2,-1.5) 154(31.2,-1) 155(31.2,-0.5) 156(31.2,0)
  oval 0.25x2 smd: 53(2.85,-28.35) 54(3.35,-28.35) 55(3.85,-28.35) 56(4.35,-28.35) 57(4.85,-28.35) 58(5.35,-28.35) 59(5.85,-28.35) 60(6.35,-28.35) 61(6.85,-28.35) 62(7.35,-28.35) 63(7.85,-28.35) 64(8.35,-28.35) 65(8.85,-28.35) 66(9.35,-28.35) 67(9.85,-28.35) 68(10.35,-28.35) 69(10.85,-28.35) 70(11.35,-28.35) 71(11.85,-28.35) 72(12.35,-28.35) 73(12.85,-28.35) 74(13.35,-28.35) 75(13.85,-28.35) 76(14.35,-28.35) 77(14.85,-28.35) 78(15.35,-28.35) 79(15.85,-28.35) 80(16.35,-28.35) 81(16.85,-28.35) 82(17.35,-28.35) 83(17.85,-28.35) 84(18.35,-28.35) 85(18.85,-28.35) 86(19.35,-28.35) 87(19.85,-28.35) 88(20.35,-28.35) 89(20.85,-28.35) 90(21.35,-28.35) 91(21.85,-28.35) 92(22.35,-28.35) 93(22.85,-28.35) 94(23.35,-28.35) 95(23.85,-28.35) 96(24.35,-28.35) 97(24.85,-28.35) 98(25.35,-28.35) 99(25.85,-28.35) 100(26.35,-28.35) 101(26.85,-28.35) 102(27.35,-28.35) 103(27.85,-28.35) 104(28.35,-28.35) 157(28.35,2.85) 158(27.85,2.85) 159(27.35,2.85) 160(26.85,2.85) 161(26.35,2.85) 162(25.85,2.85) 163(25.35,2.85) 164(24.85,2.85) 165(24.35,2.85) 166(23.85,2.85) 167(23.35,2.85) 168(22.85,2.85) 169(22.35,2.85) 170(21.85,2.85) 171(21.35,2.85) 172(20.85,2.85) 173(20.35,2.85) 174(19.85,2.85) 175(19.35,2.85) 176(18.85,2.85) 177(18.35,2.85) 178(17.85,2.85) 179(17.35,2.85) 180(16.85,2.85) 181(16.35,2.85) 182(15.85,2.85) 183(15.35,2.85) 184(14.85,2.85) 185(14.35,2.85) 186(13.85,2.85) 187(13.35,2.85) 188(12.85,2.85) 189(12.35,2.85) 190(11.85,2.85) 191(11.35,2.85) 192(10.85,2.85) 193(10.35,2.85) 194(9.85,2.85) 195(9.35,2.85) 196(8.85,2.85) 197(8.35,2.85) 198(7.85,2.85) 199(7.35,2.85) 200(6.85,2.85) 201(6.35,2.85) 202(5.85,2.85) 203(5.35,2.85) 204(4.85,2.85) 205(4.35,2.85) 206(3.85,2.85) 207(3.35,2.85) 208(2.85,2.85)
  oval 1.8x0.25 smd: 105(31.2,-25.5) 106(31.2,-25)
Top Overlay:
  circle w1: c1.524,1.524 r0.25
  lines w0.2: 29.9,-27.05 1.3,-27.05 1.3,0 2.9,1.6 29.95,1.6 29.95,-27.025
  text "208" at 2.1,2.5 h0.8
  text "1" at -0.25,0.5 h1
  text "157" at 28.75,2.5 h0.8
  text "156" at 30.5,0.75 h0.8
  text "105" at 30.5,-27 h0.8
  text "104" at 28.75,-28.75 h0.8
  text "53" at 1,-28.75 h0.8
  text "52" at -0.5,-27 h0.8
Mechanical 15:
  lines w0.1: -1.35,-25.975 1.35,-25.975 1.35,0.475 -1.35,0.475 -1.35,-25.975 ; 2.375,-29.7 28.825,-29.7 28.825,-27 2.375,-27 2.375,-29.7 ; 2.375,1.5 28.825,1.5 28.825,4.2 2.375,4.2 2.375,1.5 ; 29.85,-25.975 32.55,-25.975 32.55,0.475 29.85,0.475 29.85,-25.975

## QFP208-0.50_0.30*1.8 [mm] "LFXP2-17E-6QN208I"
pads (212):
  round 1.5 smd: 0(0,-27.6) 0(0,2.1) 0(29.7,-27.6) 0(29.7,2.1)
  oval 1.8x0.3 smd: 1(0,0) 2(0,-0.5) 3(0,-1) 4(0,-1.5) 5(0,-2) 6(0,-2.5) 7(0,-3) 8(0,-3.5) 9(0,-4) 10(0,-4.5) 11(0,-5) 12(0,-5.5) 13(0,-6) 14(0,-6.5) 15(0,-7) 16(0,-7.5) 17(0,-8) 18(0,-8.5) 19(0,-9) 20(0,-9.5) 21(0,-10) 22(0,-10.5) 23(0,-11) 24(0,-11.5) 25(0,-12) 26(0,-12.5) 27(0,-13) 28(0,-13.5) 29(0,-14) 30(0,-14.5) 31(0,-15) 32(0,-15.5) 33(0,-16) 34(0,-16.5) 35(0,-17) 36(0,-17.5) 37(0,-18) 38(0,-18.5) 39(0,-19) 40(0,-19.5) 41(0,-20) 42(0,-20.5) 43(0,-21) 44(0,-21.5) 45(0,-22) 46(0,-22.5) 47(0,-23) 48(0,-23.5) 49(0,-24) 50(0,-24.5) 51(0,-25) 52(0,-25.5) 105(29.7,-25.5) 106(29.7,-25) 107(29.7,-24.5) 108(29.7,-24) 109(29.7,-23.5) 110(29.7,-23) 111(29.7,-22.5) 112(29.7,-22) 113(29.7,-21.5) 114(29.7,-21) 115(29.7,-20.5) 116(29.7,-20) 117(29.7,-19.5) 118(29.7,-19) 119(29.7,-18.5) 120(29.7,-18) 121(29.7,-17.5) 122(29.7,-17) 123(29.7,-16.5) 124(29.7,-16) 125(29.7,-15.5) 126(29.7,-15) 127(29.7,-14.5) 128(29.7,-14) 129(29.7,-13.5) 130(29.7,-13) 131(29.7,-12.5) 132(29.7,-12) 133(29.7,-11.5) 134(29.7,-11) 135(29.7,-10.5) 136(29.7,-10) 137(29.7,-9.5) 138(29.7,-9) 139(29.7,-8.5) 140(29.7,-8) 141(29.7,-7.5) 142(29.7,-7) 143(29.7,-6.5) 144(29.7,-6) 145(29.7,-5.5) 146(29.7,-5) 147(29.7,-4.5) 148(29.7,-4) 149(29.7,-3.5) 150(29.7,-3) 151(29.7,-2.5) 152(29.7,-2) 153(29.7,-1.5) 154(29.7,-1) 155(29.7,-0.5) 156(29.7,0)
  oval 0.3x1.8 smd: 53(2.1,-27.6) 54(2.6,-27.6) 55(3.1,-27.6) 56(3.6,-27.6) 57(4.1,-27.6) 58(4.6,-27.6) 59(5.1,-27.6) 60(5.6,-27.6) 61(6.1,-27.6) 62(6.6,-27.6) 63(7.1,-27.6) 64(7.6,-27.6) 65(8.1,-27.6) 66(8.6,-27.6) 67(9.1,-27.6) 68(9.6,-27.6) 69(10.1,-27.6) 70(10.6,-27.6) 71(11.1,-27.6) 72(11.6,-27.6) 73(12.1,-27.6) 74(12.6,-27.6) 75(13.1,-27.6) 76(13.6,-27.6) 77(14.1,-27.6) 78(14.6,-27.6) 79(15.1,-27.6) 80(15.6,-27.6) 81(16.1,-27.6) 82(16.6,-27.6) 83(17.1,-27.6) 84(17.6,-27.6) 85(18.1,-27.6) 86(18.6,-27.6) 87(19.1,-27.6) 88(19.6,-27.6) 89(20.1,-27.6) 90(20.6,-27.6) 91(21.1,-27.6) 92(21.6,-27.6) 93(22.1,-27.6) 94(22.6,-27.6) 95(23.1,-27.6) 96(23.6,-27.6) 97(24.1,-27.6) 98(24.6,-27.6) 99(25.1,-27.6) 100(25.6,-27.6) 101(26.1,-27.6) 102(26.6,-27.6) 103(27.1,-27.6) 104(27.6,-27.6) 157(27.6,2.1) 158(27.1,2.1) 159(26.6,2.1) 160(26.1,2.1) 161(25.6,2.1) 162(25.1,2.1) 163(24.6,2.1) 164(24.1,2.1) 165(23.6,2.1) 166(23.1,2.1) 167(22.6,2.1) 168(22.1,2.1) 169(21.6,2.1) 170(21.1,2.1) 171(20.6,2.1) 172(20.1,2.1) 173(19.6,2.1) 174(19.1,2.1) 175(18.6,2.1) 176(18.1,2.1) 177(17.6,2.1) 178(17.1,2.1) 179(16.6,2.1) 180(16.1,2.1) 181(15.6,2.1) 182(15.1,2.1) 183(14.6,2.1) 184(14.1,2.1) 185(13.6,2.1) 186(13.1,2.1) 187(12.6,2.1) 188(12.1,2.1) 189(11.6,2.1) 190(11.1,2.1) 191(10.6,2.1) 192(10.1,2.1) 193(9.6,2.1) 194(9.1,2.1) 195(8.6,2.1) 196(8.1,2.1) 197(7.6,2.1) 198(7.1,2.1) 199(6.6,2.1) 200(6.1,2.1) 201(5.6,2.1) 202(5.1,2.1) 203(4.6,2.1) 204(4.1,2.1) 205(3.6,2.1) 206(3.1,2.1) 207(2.6,2.1) 208(2.1,2.1)
Top Overlay:
  circle w0.6: c2.3,-0.2 r0.3
  lines w0.2: 1.3,-26.3 28.4,-26.3 28.4,0.8 1.3,0.8 1.3,-26.3
  text "52" at -2.65,-27.25 h1.2
  text "53" at 0.35,-30 h1.2
  text "104" at 27.35,-30 h1.2
  text "105" at 30.35,-27.25 h1.2
  text "156" at 30.35,0.25 h1.2
  text "157" at 27.35,3.25 h1.2
  text "208" at -0.65,3.25 h1.2
  text "1" at -1.65,0.25 h1.2
Mechanical 7:
  lines w0.2: 14.6,-12.75 15.1,-12.75 ; 14.85,-13 14.85,-12.5
Mechanical 15:
  lines w0.1: -1.25,-28.85 30.95,-28.85 30.95,3.35 -1.25,3.35 -1.25,-28.85

## SO4-1.27_0.90*1.3 [mm] "TCMT11"
height 2.1
pads (4):
  rect 0.9x1.3 smd: 1(0,0) 2(1.27,0) 3(1.27,6.3) 4(0,6.3)
Top Layer:
  lines w0.3: -0.75,-0.5 -0.5,-0.25 ; -0.75,6.8 -0.5,6.55 ; -0.5,0 -1,-0.5 ; -0.5,0.25 -1,-0.5 ; -0.5,5.8 -1,6.8 ; -0.5,6.05 -1,6.8 ; -0.5,6.3 -1,6.8 ; -0.25,-0.5 -1,-0.5 ; -0.25,0.5 -0.5,0.5 -1,-0.5 ; -0.25,6.8 -1,6.8 ; 1.52,-0.5 2.27,-0.5 ; 1.52,6.8 2.27,6.8 ; 1.77,-0.25 2.02,-0.5 ; 1.77,0 2.27,-0.5 ; 1.77,0.25 2.27,-0.5 ; 1.77,0.5 2.27,-0.5 ; 1.77,5.8 2.27,6.8 ; 1.77,6.05 2.27,6.8 ; 1.77,6.3 2.27,6.8 ; 1.77,6.55 2.02,6.8
Top Overlay:
  circle w0.5: c-1.48,0.75 r0.25
  lines w0.2: -1.25,1.05 2.48,1.05 2.48,5.25 -1.25,5.25 -1.25,1.05
Top Solder:
  lines w0.3: -0.75,-0.5 -0.5,-0.25 ; -0.75,6.8 -0.5,6.55 ; -0.5,0 -1,-0.5 ; -0.5,0.5 -1,-0.5 ; -0.5,5.8 -1,6.8 ; -0.5,6.3 -1,6.8 ; -0.25,-0.5 -1,-0.5 ; -0.25,6.8 -1,6.8 ; 1.52,-0.5 2.27,-0.5 ; 1.52,6.8 2.27,6.8 ; 1.77,-0.25 2.02,-0.5 ; 1.77,0 2.27,-0.5 ; 1.77,0.5 2.27,-0.5 ; 1.77,5.8 2.27,6.8 ; 1.77,6.3 2.27,6.8 ; 1.77,6.55 2.02,6.8
Mechanical 8:
  lines w0.2: -2.78,-1.65 4.05,-1.65 4.05,7.95 -2.78,7.95 -2.78,-1.65 ; -0.78,1 -0.78,5.3 2.05,5.3 2.05,1 -0.78,1
Mechanical 16:
  lines w0.1: -1.5,-1 -1.5,1 2.77,1 2.77,-1 -1.5,-1 ; -1.5,5.3 -1.5,7.3 2.77,7.3 2.77,5.3 -1.5,5.3

## SO4-1.27_0.90*1.3-T [mm]
height 2.3
pads (4):
  rect 0.9x1.3 smd: 1(0,0) 2(1.27,0) 3(1.27,6.3) 4(0,6.3)
Top Overlay:
  lines w0.2: 0.6,1 0.6,-1 -0.78,-1 -0.78,1 ; -0.78,1 2.05,1 2.05,5.3 -0.78,5.3 -0.78,1
Mechanical 15:
  lines w0.1: -0.8,-1 2.07,-1 2.07,1 -0.8,1 -0.8,-1 ; -0.8,5.3 2.07,5.3 2.07,7.3 -0.8,7.3 -0.8,5.3

## SO4-2.54_0.80*1.5 [mm]
pads (4):
  rect 0.8x1.5 smd: 1(0,0) 2(2.54,0) 3(2.54,6.7) 4(0,6.7)
Top Layer:
  lines w0.4: -0.41,-0.55 -0.41,0.075 ; -0.41,6.625 -0.41,7.25 ; 0.04,-0.55 -0.785,-0.55 -0.335,0.55 0.05,0.55 ; 0.04,7.25 -0.785,7.25 -0.335,6.15 0.05,6.15 ; 2.49,0.55 2.875,0.55 3.325,-0.55 2.5,-0.55 ; 2.49,6.15 2.875,6.15 3.325,7.25 2.5,7.25 ; 2.95,-0.55 2.95,0.075 ; 2.95,6.625 2.95,7.25
Top Overlay:
  circle w0.5: c-0.5,2 r0.25
  lines w0.2: -1.23,1.15 3.77,1.15 3.77,5.55 -1.23,5.55 -1.23,1.15
  text "1" at -1.5,-0.5 h1.2
Top Solder:
  lines w0.4: -0.41,-0.55 -0.41,0.075 ; -0.41,6.625 -0.41,7.25 ; 0.04,-0.55 -0.785,-0.55 -0.335,0.55 0.05,0.55 ; 0.04,7.25 -0.785,7.25 -0.335,6.15 0.05,6.15 ; 2.49,0.55 2.875,0.55 3.325,-0.55 2.5,-0.55 ; 2.49,6.15 2.875,6.15 3.325,7.25 2.5,7.25 ; 2.95,-0.55 2.95,0.075 ; 2.95,6.625 2.95,7.25
Mechanical 8:
  lines w0.2: -2.25,-1.75 -2.25,8.45 4.75,8.45 4.75,-1.75 -2.25,-1.75
Mechanical 16:
  lines w0.1: -1.335,-1.1 -1.335,1.1 3.875,1.1 3.875,-1.1 -1.335,-1.1 ; -1.335,5.6 3.875,5.6 3.875,7.8 -1.335,7.8 -1.335,5.6

## SO4-2.54_0.80*1.5-T [mm]
pads (4):
  rect 0.8x1.5 smd: 1(0,0) 2(2.54,0) 3(2.54,6.7) 4(0,6.7)
Top Overlay:
  lines w0.2: -1.25,1.15 3.75,1.15 3.75,5.55 -1.25,5.55 -1.25,-1.05 1.25,-1.05 1.25,1.1
Mechanical 15:
  lines w0.1: -0.75,-1.1 -0.75,1.1 3.29,1.1 3.29,-1.1 -0.75,-1.1 ; -0.75,5.6 3.29,5.6 3.29,7.8 -0.75,7.8 -0.75,5.6